# EAGLE library part L6902D (library st-microelectronics)
1A Switching Regulator with adjustable Current Limit
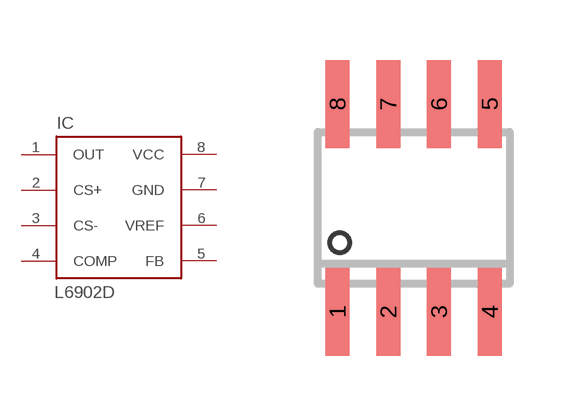
[diagram p41: symbol with the pads of SO08; footprint SO08]

Designator prefix IC

## L6902D  [SO08]
1  OUT  out
2  CS+  in
3  CS-  in
4  COMP
5  FB  in
6  VREF  in
7  GND  pwr
8  VCC  pwr

## Footprint SO08 (pad centres in mm)
SMALL OUTLINE INTEGRATED CIRCUIT body 3.9 mm/JEDEC MS-012AA
smd 0.6 x 2.2: 1 -1.905,-2.6; 2 -0.635,-2.6; 3 0.635,-2.6; 4 1.905,-2.6; 5 1.905,2.6; 6 0.635,2.6; 7 -0.635,2.6; 8 -1.905,2.6